# EAGLE library part PH-12 (library con-jst-ph)
HEADER
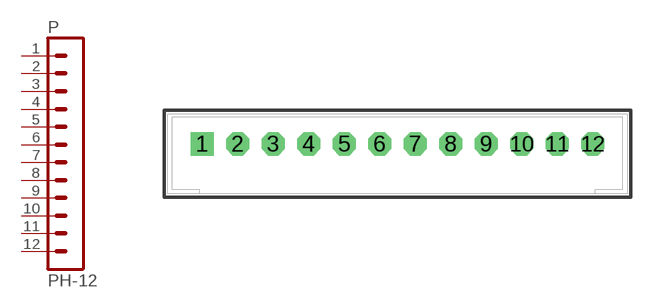
[diagram p6: symbol with the pads of B12B-PH-K; footprint B12B-PH-K]

Designator prefix P

## PH-12  [B12B-PH-K]
1  1  pas
2  2  pas
3  3  pas
4  4  pas
5  5  pas
6  6  pas
7  7  pas
8  8  pas
9  9  pas
10  10  pas
11  11  pas
12  12  pas

## Footprint B12B-PH-K (pad centres in mm)
HEADER
drill 0.813 square: 1 -11,0
drill 0.813 octagon: 2 -9,0; 3 -7,0; 4 -5,0; 5 -3,0; 6 -1,0; 7 1,0; 8 3,0; 9 5,0; 10 7,0; 11 9,0; 12 11,0